# Altium footprint library MSS1278.PcbLib: 1 footprints
Each footprint in its own frame and in the unit in brackets; x right, y up, seen from the top. Pads: shape width x height; smd on the part's side, far side on the other; paste and mask are expansions set on the pad; w line width, h text height; cw(c..) or ccw(c..) is an arc to the next point about the centre after c.
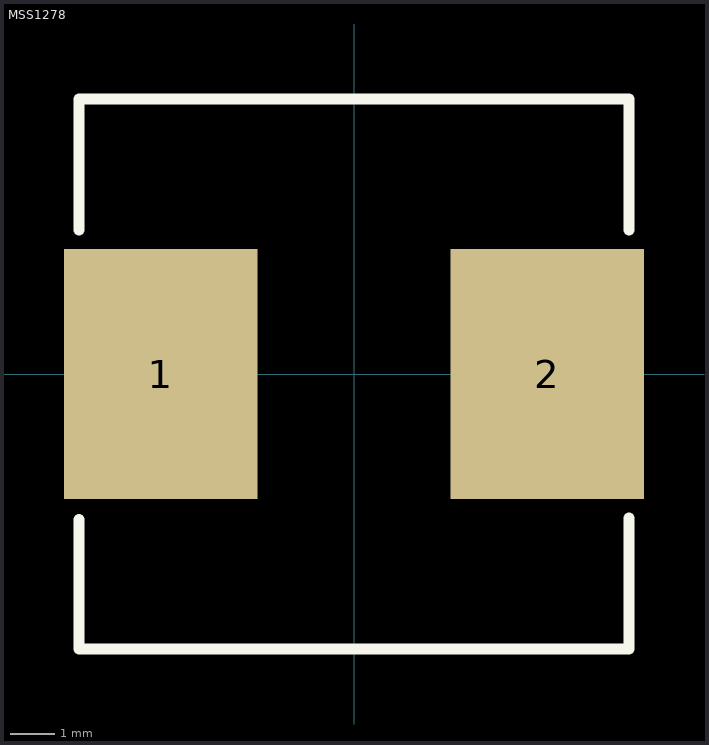
[diagram p0: the footprint, top view; thin cyan lines are the x and y axes]

## MSS1278 [mil]
pads (2):
  rect 170x220 smd: 1(-170,0) 2(170,0)
Top Overlay:
  lines w10: -242,-128 -242,-242 242,-242 242,-127 ; -242,127 -242,242 242,242 242,127
3D body: height 316.93, standoff -1.38, extent -242.12,-242.12 242.12,242.13